# Altium footprint library Helianthus 2.1 Footprints.PcbLib: 24 footprints (part 1 of 2)
Each footprint in its own frame and in the unit in brackets; x right, y up, seen from the top. Pads: shape width x height; smd on the part's side, far side on the other; paste and mask are expansions set on the pad; w line width, h text height; cw(c..) or ccw(c..) is an arc to the next point about the centre after c.
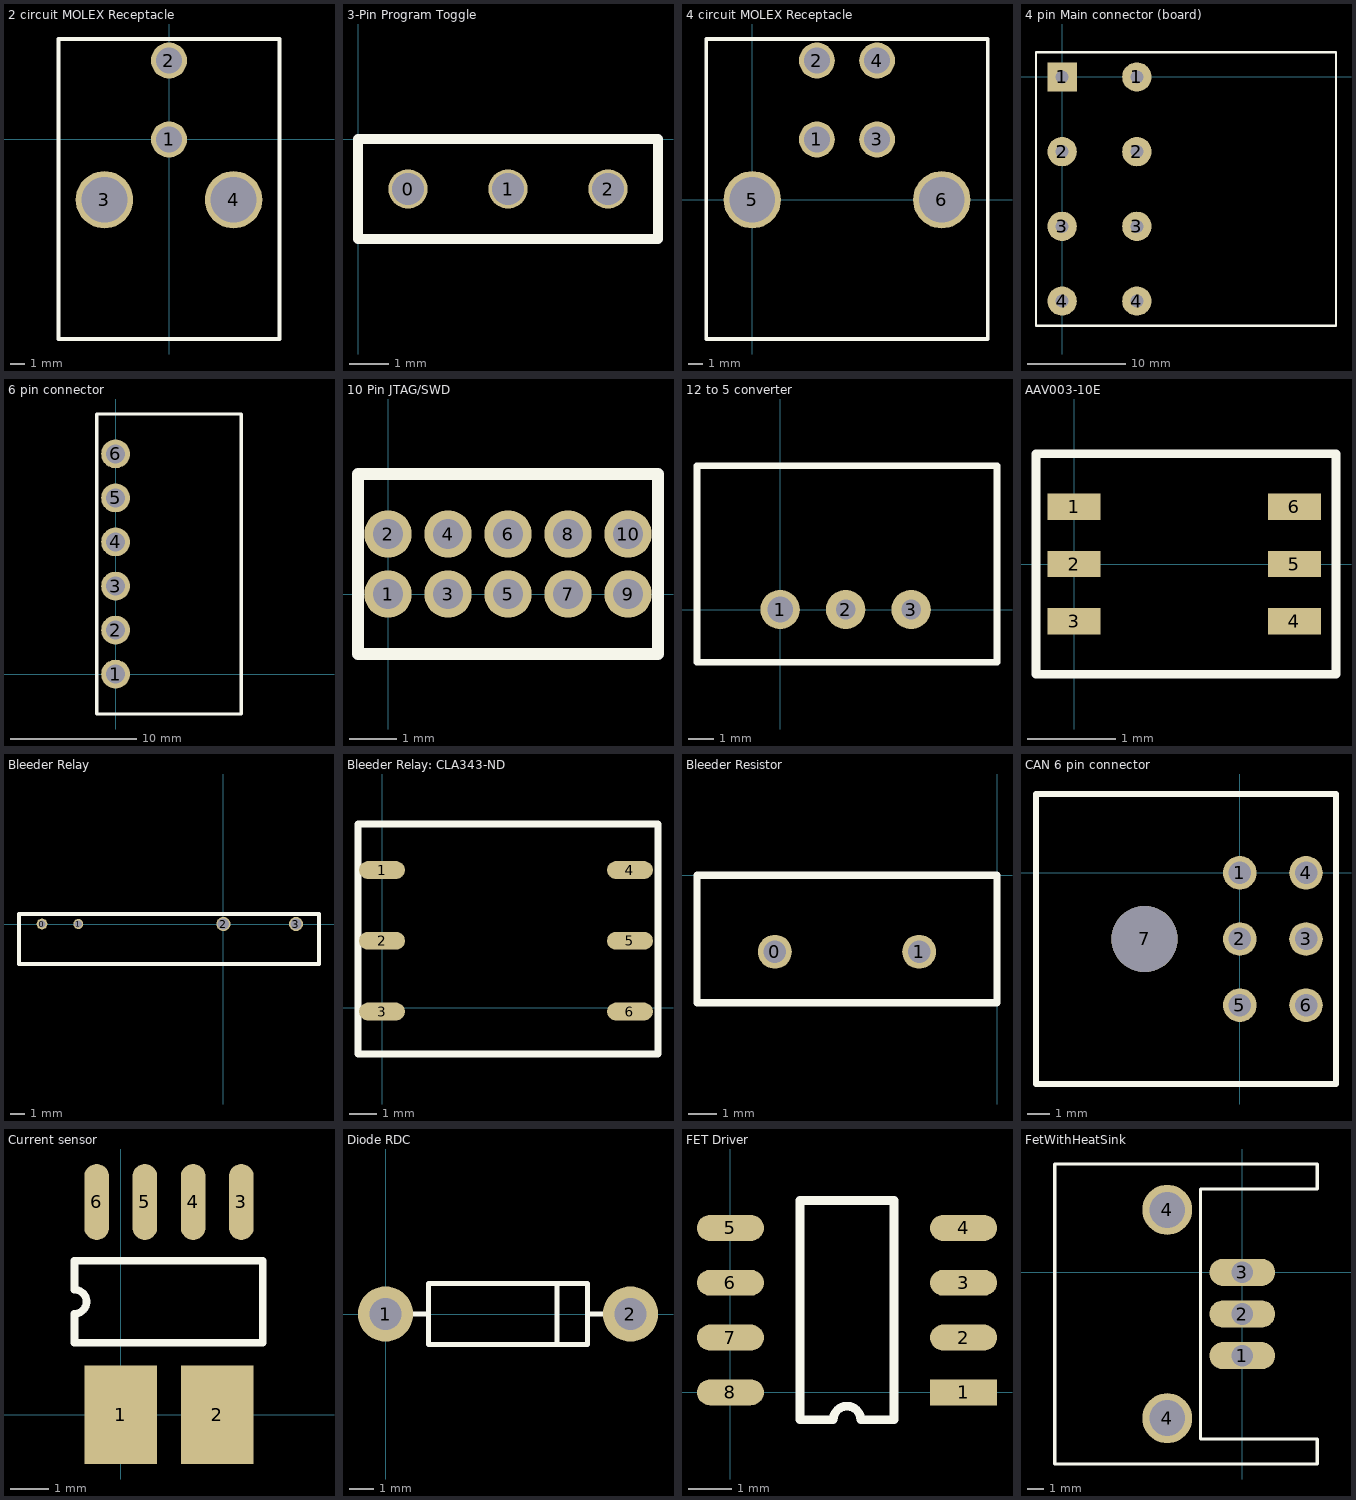
[diagram p0: the footprints below, top view; thin cyan lines are the x and y axes]

## 2 circuit MOLEX Receptacle [mm]
pads (4):
  round 2.5 hole 1.8: 1(0,0) 2(0,5.5)
  round 4 hole 3.2: 3(-4.5,-4.2) 4(4.5,-4.2)
Top Overlay:
  lines w0.254: -7.7,-13.9 -4.5,-13.9 7.7,-13.9 7.7,7 -7.7,7 -7.7,-13.9

## 3-Pin Program Toggle [mm]
pads (3):
  round 1 hole 0.813: 0(1.27,-1.27) 1(3.81,-1.27) 2(6.35,-1.27)
Top Overlay:
  lines w0.254: 0,-2.54 0,0 7.62,0 7.62,-2.54 0,-2.54

## 4 circuit MOLEX Receptacle [mm]
pads (6):
  round 2.5 hole 1.8: 1(4.5,4.2) 2(4.5,9.7) 3(8.7,4.2) 4(8.7,9.7)
  round 4 hole 3.2: 5(0,0) 6(13.2,0)
Top Overlay:
  lines w0.254: -3.2,-9.7 -3.2,11.2 16.4,11.2 16.4,-9.7 0,-9.7 -3.2,-9.7

## 4 pin Main connector (board) [mm]
pads (8):
  rect 3x3 hole 1.321: 1(0,0)
  round 3 hole 1.321: 1(7.62,0) 2(0,-7.62) 2(7.62,-7.62) 3(0,-15.24) 3(7.62,-15.24) 4(0,-22.86) 4(7.62,-22.86)
Top Overlay:
  lines w0.254: -2.667,-25.4 -2.667,2.54 27.94,2.54 27.94,-25.4 -2.667,-25.4

## 6 pin connector [mil]
pads (6):
  round 90 hole 59.5: 1(0,0) 2(0,137.8) 3(0,275.59) 4(0,413.39) 5(0,551.18) 6(0,688.98)
Top Overlay:
  lines w10: -59.06,-125 -59.06,814 393.7,814 393.7,-125 -59.06,-125

## 10 Pin JTAG/SWD [mm]
height 6.3
pads (10):
  round 1 hole 0.635: 1(0,0) 2(0,1.27) 3(1.27,0) 4(1.27,1.27) 5(2.54,0) 6(2.54,1.27) 7(3.81,0) 8(3.81,1.27) 9(5.08,0) 10(5.08,1.27)
Top Overlay:
  lines w0.254: -0.635,-1.27 5.715,-1.27 5.715,2.54 -0.635,2.54 -0.635,-1.27

## 12 to 5 converter [mil]
pads (3):
  round 60 hole 39.37: 1(0,0)
  round 60 hole 30: 2(100,0) 3(200,0)
Top Overlay:
  lines w10: -126.97,-80.31 -126.97,219.29 331.1,219.29 331.1,-80.31 -126.97,-80.31

## AAV003-10E [mm]
pads (6):
  rect 0.6x0.3 smd: 1(0,0.65) 2(0,0) 3(0,-0.65) 4(2.5,-0.65) 5(2.5,0) 6(2.5,0.65)
Top Overlay:
  lines w0.1: -0.432,-1.25 -0.432,1.25 2.972,1.25 2.972,-1.25 -0.432,-1.25

## Bleeder Relay [mm]
pads (4):
  round 0.75 hole 0.5: 0(-12.7,0)
  round 0.7 hole 0.5: 1(-10.16,0)
  round 1 hole 0.8: 2(0,0) 3(5.08,0)
Top Overlay:
  lines w0.254: -14.31,-2.8 6.69,-2.8 6.69,0.7 -14.31,0.7 -14.31,-2.8

## Bleeder Relay: CLA343-ND [mm]
pads (6):
  oval 1.65x0.64 smd: 1(0,4.953) 2(0,2.413) 3(0,-0.127) 4(8.9,4.953) 5(8.9,2.413) 6(8.9,-0.127)
Top Overlay:
  lines w0.254: -0.864,-1.651 -0.864,6.604 9.906,6.604 9.906,-1.651 -0.864,-1.651

## Bleeder Resistor [mm]
pads (2):
  round 1.2 hole 0.8: 0(-7.85,-2.7) 1(-2.75,-2.7)
Top Overlay:
  lines w0.254: -10.6,-4.5 0,-4.5 0,0 -10.6,0 -10.6,-4.5

## CAN 6 pin connector [mm]
pads (7):
  round 1.524 hole 1.02: 1(0,0) 2(0,-3) 3(3,-3) 4(3,0) 5(0,-6) 6(3,-6)
  round 3 hole 3: 7(-4.32,-3)
Top Overlay:
  lines w0.254: -9.24,-9.575 4.36,-9.575 4.36,3.575 -9.24,3.575 -9.24,-9.575

## Current sensor [mm]
pads (6):
  rect 1.905x2.6 smd: 1(0,0) 2(2.54,0)
  oval 0.65x2 smd: 3(3.175,5.6) 4(1.905,5.6) 5(0.635,5.6) 6(-0.635,5.6)
Top Overlay:
  lines w0.2: -1.219,1.895 3.734,1.895 3.734,4.054 -1.219,4.054 -1.219,3.292 cw(c-1.219,2.975) -1.219,2.657 -1.219,1.895

## Diode RDC [mil]
pads (2):
  round 90 hole 52: 1(0,0) 2(400,0)
Top Overlay:
  lines w7.87: 40,0 70,0 ; 280,-50 280,50 ; 330,0 360,0 ; 70,-50 70,50 330,50 330,-50 70,-50

## FET Driver [mm]
pads (8):
  rect 1.55x0.6 smd: 1(5.4,0)
  oval 1.55x0.6 smd: 2(5.4,1.27) 3(5.4,2.54) 4(5.4,3.81) 5(0,3.81) 6(0,2.54) 7(0,1.27) 8(0,0)
Top Overlay:
  lines w0.2: 1.61,-0.635 2.382,-0.635 cw(c2.7,-0.635) 3.017,-0.635 3.79,-0.635 3.79,4.445 1.61,4.445 1.61,-0.635

## FetWithHeatSink [mil]
pads (5):
  oval 157.48x65 hole 52: 1(0,-200) 2(0,-100) 3(0,0)
  round 120 hole 86: 4(-180,-350) 4(-180,150)
Top Overlay:
  lines w7.87: -450,-460 180,-460 180,-400 -100,-400 -100,200 180,200 180,260 -450,260 -450,-460